# Altium footprint library MODULE.PCBLIB: 102 footprints (part 4 of 7)
Each footprint in its own frame and in the unit in brackets; x right, y up, seen from the top. Pads: shape width x height; smd on the part's side, far side on the other; paste and mask are expansions set on the pad; w line width, h text height; cw(c..) or ccw(c..) is an arc to the next point about the centre after c.
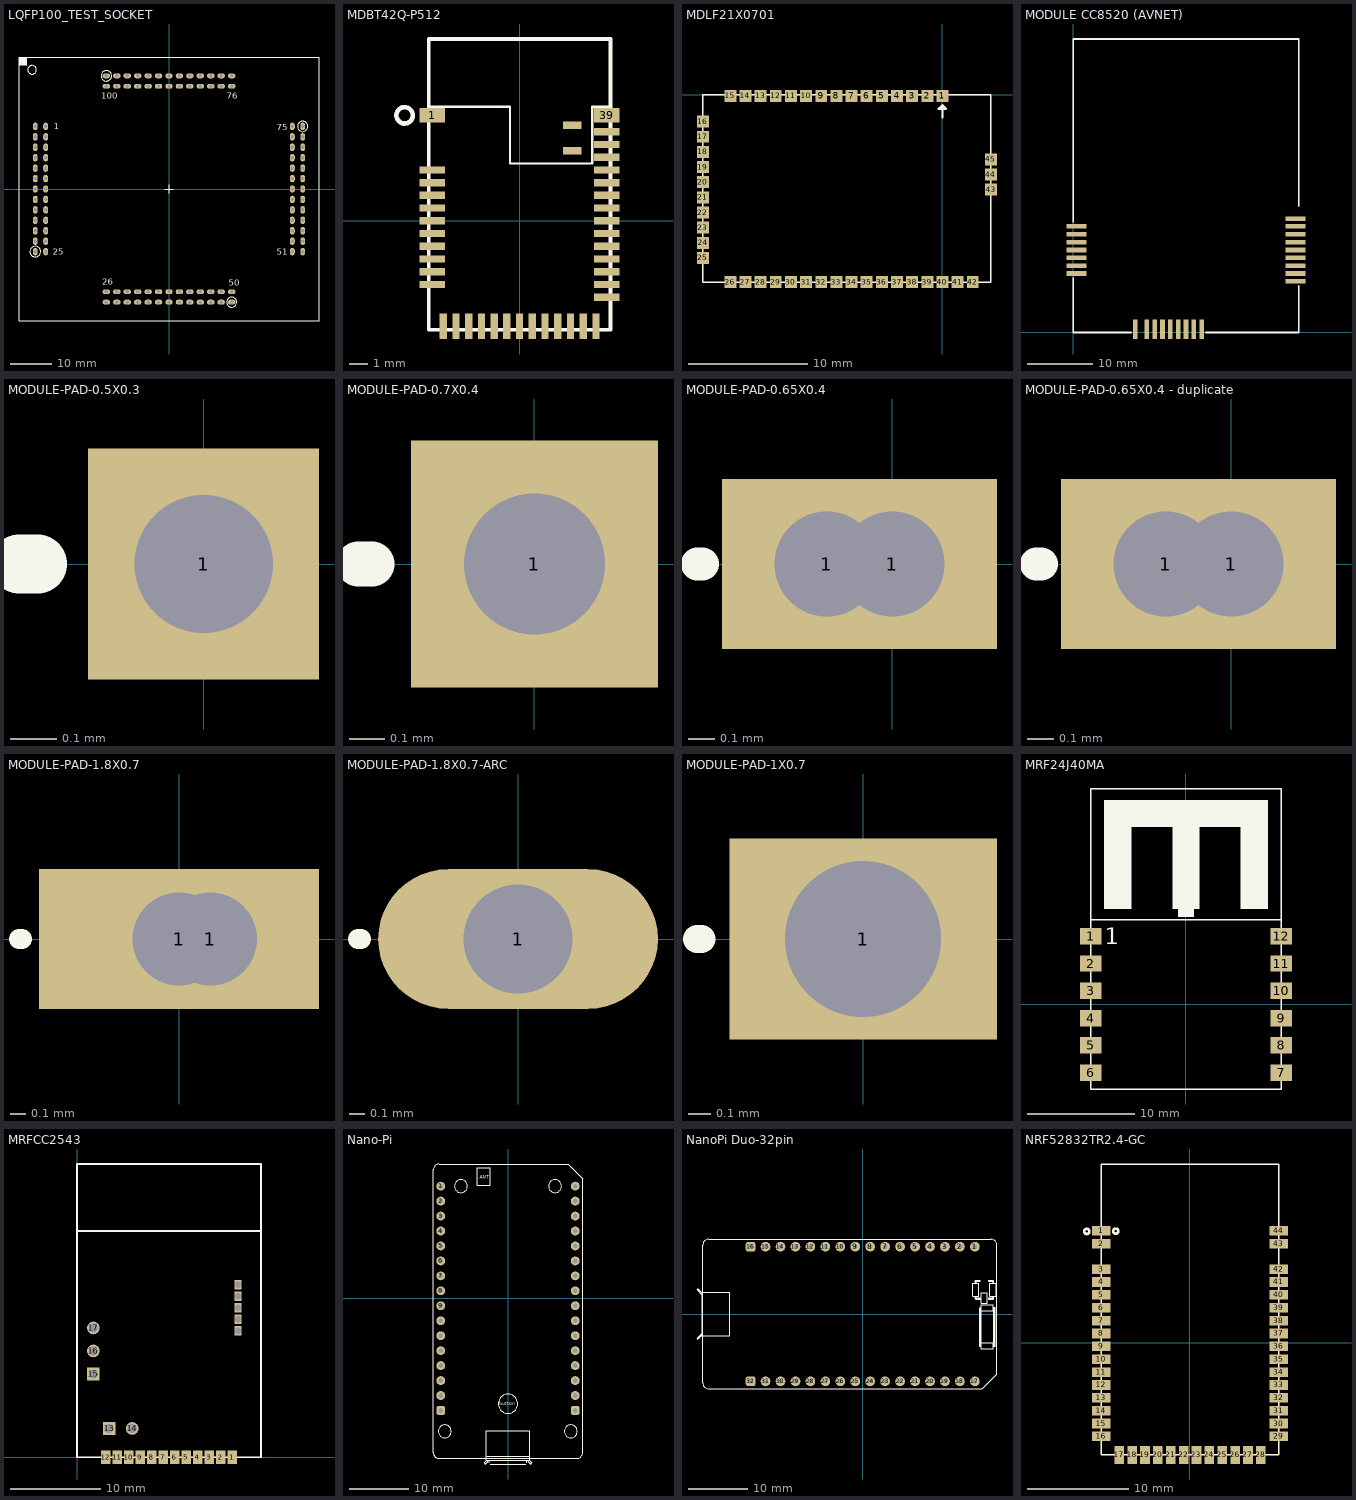
[diagram p3: the footprints below, top view; thin cyan lines are the x and y axes]

## LQFP100_TEST_SOCKET [mm]
pads (104):
  oval 1.2x1.8 hole 0.8 mask+0.102: 0(-32.541,-15.24) 0(32.541,15.24) 1(-30.001,15.24) 2(-32.541,15.24) 3(-30.001,12.7) 4(-32.541,12.7) 5(-30.001,10.16) 6(-32.541,10.16) 7(-30.001,7.62) 8(-32.541,7.62) 9(-30.001,5.08) 10(-32.541,5.08) 11(-30.001,2.54) 12(-32.541,2.54) 13(-30.001,0) 14(-32.541,0) 15(-30.001,-2.54) 16(-32.541,-2.54) 17(-30.001,-5.08) 18(-32.541,-5.08) 19(-30.001,-7.62) 20(-32.541,-7.62) 21(-30.001,-10.16) 22(-32.541,-10.16) 23(-30.001,-12.7) 24(-32.541,-12.7) 25(-30.001,-15.24) 51.(30.001,-15.24) 52(32.541,-15.24) 53(30.001,-12.7) 54(32.541,-12.7) 55(30.001,-10.16) 56(32.541,-10.16) 57(30.001,-7.62) 58(32.541,-7.62) 59(30.001,-5.08) 60(32.541,-5.08) 61(30.001,-2.54) 62(32.541,-2.54) 63(30.001,0) 64(32.541,0) 65(30.001,2.54) 66(32.541,2.54) 67(30.001,5.08) 68(32.541,5.08) 69(30.001,7.62) 70(32.541,7.62) 71(30.001,10.16) 72(32.541,10.16) 73(30.001,12.7) 74(32.541,12.7) 75(30.001,15.24)
  oval 1.8x1.2 hole 0.8 mask+0.102: 0(-15.24,27.541) 0(15.24,-27.541) 16(15.24,25.001) 26(-15.24,-25.001) 27(-15.24,-27.541) 28(-12.7,-25.001) 29(-12.7,-27.541) 30(-10.16,-25.001) 31(-10.16,-27.541) 32(-7.62,-25.001) 33(-7.62,-27.541) 34(-5.08,-25.001) 35(-5.08,-27.541) 36(-2.54,-25.001) 37(-2.54,-27.541) 38(0,-25.001) 39(0,-27.541) 40(2.54,-25.001) 41(2.54,-27.541) 42(5.08,-25.001) 43(5.08,-27.541) 44(7.62,-25.001) 45(7.62,-27.541) 46(10.16,-25.001) 47(10.16,-27.541) 48(12.7,-25.001) 49(12.7,-27.541) 50(15.24,-25.001) 77(15.24,27.541) 78(12.7,25.001) 79(12.7,27.541) 80(10.16,25.001) 81(10.16,27.541) 82(7.62,25.001) 83(7.62,27.541) 84(5.08,25.001) 85(5.08,27.541) 86(2.54,25.001) 87(2.54,27.541) 88(0,25.001) 89(0,27.541) 90(-2.54,25.001) 91(-2.54,27.541) 92(-5.08,25.001) 93(-5.08,27.541) 94(-7.62,25.001) 95(-7.62,27.541) 96(-10.16,25.001) 97(-10.16,27.541) 98(-12.7,25.001) 99(-12.7,27.541) 100(-15.24,25.001)
TopOverlay:
  circle w0.254: c15.24,-27.541 r1.21
  circle w0.254: c-32.541,-15.24 r1.294
  circle w0.254: c32.541,15.24 r1.257
  circle w0.254: c-15.24,27.541 r1.276
  circle w0.254: c-33.312,29.001 r1.061
  rectangle: -36.5,30.001 -34.501,32
  lines w0.127: -1,0 1,0 ; 0,-1 0,1
  lines w0.2: -36.5,-32 36.5,-32 36.5,32 -36.5,32 -36.5,-32
  text "1" at -28.001,14.501 h1.52
  text "25" at -28.251,-16.001 h1.52
  text "26" at -16.251,-23.251 h1.52
  text "50" at 14.501,-23.501 h1.52
  text "51" at 26.251,-16.001 h1.52
  text "75" at 26.251,14.251 h1.52
  text "76" at 14.001,22.001 h1.52
  text "100" at -16.501,22.001 h1.52

## MDBT42Q-P512 [mm] "MDBT42Q-P512"
pads (41):
  rect 1.4x0.8 smd mask+0.102: 1(-4.8,5.8) 39(4.8,5.8)
  rect 1.4x0.4 smd mask+0.102: 2(-4.8,2.8) 3(-4.8,2.1) 4(-4.8,1.4) 5(-4.8,0.7) 6(-4.8,0) 7(-4.8,-0.7) 8(-4.8,-1.4) 9(-4.8,-2.1) 10(-4.8,-2.8) 11(-4.8,-3.5) 25(4.8,-4.2) 26(4.8,-3.5) 27(4.8,-2.8) 28(4.8,-2.1) 29(4.8,-1.4) 30(4.8,-0.7) 31(4.8,0) 32(4.8,0.7) 33(4.8,1.4) 34(4.8,2.1) 35(4.8,2.8) 36(4.8,3.5) 37(4.8,4.2) 38(4.8,4.9)
  rect 0.4x1.4 smd mask+0.102: 12(-4.2,-5.8) 13(-3.5,-5.8) 14(-2.8,-5.8) 15(-2.1,-5.8) 16(-1.4,-5.8) 17(-0.7,-5.8) 18(0,-5.8) 19(0.7,-5.8) 20(1.4,-5.8) 21(2.1,-5.8) 22(2.8,-5.8) 23(3.5,-5.8) 24(4.2,-5.8)
  rect 1x0.4 smd mask+0.102: 40(2.9,5.25) 41(2.9,3.85)
TopOverlay:
  circle w0.254: c-6.325,5.8 r0.45
  lines w0.127: -5,6.275 -0.525,6.275 -0.525,3.15 4,3.15 4,6.275 4.975,6.275
  lines w0.2: -5,-6 5,-6 5,10 -5,10 -5,-6

## MDLF21X0701 [mm]
pads (45):
  rect 1x1 smd mask+0.102: 1(0,-0.1) 2(-1.27,-0.1) 3(-2.54,-0.1) 4(-3.81,-0.1) 5(-5.08,-0.1) 6(-6.35,-0.1) 7(-7.62,-0.1) 8(-8.89,-0.1) 9(-10.16,-0.1) 10(-11.43,-0.1) 11(-12.7,-0.1) 12(-13.97,-0.1) 13(-15.24,-0.1) 14(-16.51,-0.1) 15(-17.78,-0.1) 16(-20.07,-2.26) 17(-20.07,-3.53) 18(-20.07,-4.8) 19(-20.07,-6.07) 20(-20.07,-7.34) 21(-20.07,-8.61) 22(-20.07,-9.88) 23(-20.07,-11.15) 24(-20.06,-12.42) 25(-20.07,-13.69) 26(-17.78,-15.72) 27(-16.51,-15.72) 28(-15.24,-15.72) 29(-13.97,-15.72) 30(-12.7,-15.72) 31(-11.43,-15.72) 32(-10.16,-15.72) 33(-8.89,-15.72) 34(-7.62,-15.72) 35(-6.35,-15.72) 36(-5.08,-15.72) 37(-3.81,-15.72) 38(-2.54,-15.72) 39(-1.27,-15.72) 40(0,-15.72) 41(1.27,-15.72) 42(2.54,-15.72) 43(4.07,-7.97) 44(4.06,-6.7) 45(4.06,-5.43)
TopOverlay:
  lines w0.127: -20.07,-15.72 4.06,-15.72 4.06,0 -20.07,0 -20.07,-15.72
  lines w0.2: 0,-1.9 0,-0.9 ; 0,-0.9 0.3,-1.2 -0.3,-1.2 0,-0.9

## MODULE CC8520 (AVNET) [mm]
pads (25):
  rect 3x0.7 smd mask+0.102: P1(0.5,11.42) P2(0.5,12.62) P3(0.5,13.82) P4(0.5,15.02) P5(0.5,10.22) P6(0.5,9.02) P9(0.5,16.22) P17(34,7.82) P18(34,9.02) P19(34,10.22) P20(34,11.42) P21(34,12.62) P22(34,13.82) P23(34,15.02) P24(34,16.22) P26(34,17.42)
  rect 0.7x3 smd mask+0.102: P7(9.49,0.5) P8(11.25,0.5) P10(12.45,0.5) P11(13.65,0.5) P12(14.85,0.5) P13(16.05,0.5) P14(17.25,0.5) P15(18.45,0.5) P16(19.65,0.5)
TopOverlay:
  lines w0.254: 0,8.375 0,0 8.875,0 ; 0,16.875 0,44.9 34.5,44.9 ; 20.25,0 34.5,0 ; 34.5,7.125 34.5,0 ; 34.5,19.325 34.5,44.9 ; 34.5,0 34.5,0 ; 34.5,44.9 34.5,44.9

## MODULE-PAD-0.5X0.3 [mm]
pads (1):
  rect 0.5x0.5 / inner round 0 / far side round 0 hole 0.3 mask+0.102: 1(0,0)
TopOverlay:
  lines w0.127: -0.4,0 -0.36,0

## MODULE-PAD-0.7X0.4 [mm] "MODULE-PAD-0.7X0.4"
pads (1):
  rect 0.7x0.7 hole 0.4 mask+0.102: 1(0,0)
TopOverlay:
  lines w0.127: -0.5,0 -0.46,0

## MODULE-PAD-0.65X0.4 [mm]
pads (2):
  rect 0.8x0.65 hole 0.4 mask+0.102: 1(-0.25,0) 1(0,0)
TopOverlay:
  lines w0.127: -0.745,0 -0.725,0

## MODULE-PAD-0.65X0.4 - duplicate [mm]
pads (2):
  rect 0.8x0.65 hole 0.4 mask+0.102: 1(-0.25,0) 1(0,0)
TopOverlay:
  lines w0.127: -0.745,0 -0.725,0

## MODULE-PAD-1.8X0.7 [mm]
pads (2):
  rect 1.8x0.9 hole 0.6 mask+0.102: 1(0,0)
  oval 1x0.9 hole 0.6 mask+0.102: 1(0.2,0)
TopOverlay:
  lines w0.127: -1.03,0 -1.01,0

## MODULE-PAD-1.8X0.7-ARC [mm]
pads (1):
  oval 1.8x0.9 hole 0.7 mask+0.102: 1(0,0)
TopOverlay:
  lines w0.127: -1.03,0 -1.01,0

## MODULE-PAD-1X0.7 [mm]
pads (1):
  rect 1.2x0.9 hole 0.7 mask+0.102: 1(0,0)
TopOverlay:
  lines w0.127: -0.745,0 -0.725,0

## MRF24J40MA [mm]
pads (12):
  rect 2x1.524 smd mask+0.102: 1(-8.89,6.35) 2(-8.89,3.81) 3(-8.89,1.27) 4(-8.89,-1.27) 5(-8.89,-3.81) 6(-8.89,-6.35) 7(8.89,-6.35) 8(8.89,-3.81) 9(8.89,-1.27) 10(8.89,1.27) 11(8.89,3.81) 12(8.89,6.35)
TopOverlay:
  rectangle: -7.62,16.51 7.62,19.05
  rectangle: -7.62,8.89 -5.08,16.51
  rectangle: 5.08,8.89 7.62,16.51
  rectangle: -1.27,8.89 1.27,16.51
  rectangle: -0.762,8.128 0.762,8.89
  lines w0.127: -8.89,7.874 8.89,7.874 ; -8.89,-7.874 8.89,-7.874 8.89,20.066 -8.89,20.066 -8.89,-7.874
  text "1" at -7.56,5.61 h1.52

## MRFCC2543 [mm]
pads (22):
  rect 1x1.5 smd mask+0.102: 1(17.145,0) 2(15.875,0) 3(14.605,0) 4(13.335,0) 5(12.065,0) 6(10.795,0) 7(9.525,0) 8(8.255,0) 9(6.985,0) 10(5.715,0) 11(4.445,0) 12(3.175,0)
  rect 1.4x1.4 hole 1 mask+0.102: 13(3.556,3.175) 15(1.8,9.2)
  round 1.4 hole 1 mask+0.102: 14(6.096,3.175) 16(1.8,11.74) 17(1.8,14.28)
  rect 0.8x1 hole 0.7 mask+0.102: 18(17.78,19.05) 19(17.78,17.78) 20(17.78,16.51) 21(17.78,15.24) 22(17.78,13.97)
TopOverlay:
  lines w0.2: 0,25 20.32,25 ; 0,0 20.32,0 20.32,32.385 0,32.385 0,0

## Nano-Pi [mm] "Nano-Pi"
pads (32):
  round 1.5 hole 0.8 mask+0.05: 1(-11.43,19.05) 2(-11.43,16.51) 3(-11.43,13.97) 4(-11.43,11.43) 5(-11.43,8.89) 6(-11.43,6.35) 7(-11.43,3.81) 8(-11.43,1.27) 9(-11.43,-1.27) 10(-11.43,-3.81) 11(-11.43,-6.35) 12(-11.43,-8.89) 13(-11.43,-11.43) 14(-11.43,-13.97) 15(-11.43,-16.51) 18(11.43,-16.51) 19(11.43,-13.97) 20(11.43,-11.43) 21(11.43,-8.89) 22(11.43,-6.35) 23(11.43,-3.81) 24(11.43,-1.27) 25(11.43,1.27) 26(11.43,3.81) 27(11.43,6.35) 28(11.43,8.89) 29(11.43,11.43) 30(11.43,13.97) 31(11.43,16.51) 32(11.43,19.05)
  rrect50% 1.5x1.5 hole 0.8 mask+0.05: 16(-11.43,-19.05) 17(11.43,-19.05)
TopOverlay:
  circle w0.1: c8,19.05 r1.1
  circle w0.1: c10.675,-22.591 r1.1
  circle w0.1: c-8,19.05 r1.1
  circle w0.1: c-10.725,-22.591 r1.1
  lines w0.1: -3.7,-27.511 -3.7,-22.511 3.7,-22.511 3.7,-27.511 ; -3.7,-26.841 3.7,-26.841 ; -3.45,-27.541 -3.45,-27.766 -3.825,-28.141 -4,-27.966 -4,-27.916 -3.7,-27.616 -3.7,-27.541 3.7,-27.541 3.7,-27.616 4,-27.916 4,-27.966 3.825,-28.141 3.45,-27.766 3.45,-27.541 ; -3.2,-27.966 -3.2,-27.541 ; -3.025,-28.141 3.025,-28.141 ; 3.2,-27.966 3.2,-27.541 ; -12.7,-26.191 ccw(c-11.7,-26.191) -11.7,-27.191 ; -12.7,-26.191 ccw(c-11.7,-26.191) -11.7,-27.191 ; -12.7,-26.191 -12.7,21.809 cw(c-11.7,21.809) -11.7,22.809 10.2,22.809 12.7,20.309 12.7,-26.191 cw(c11.7,-26.191) 11.7,-27.191 -11.7,-27.191 ; 0,-19.56 cw(c0,-17.92) 0,-16.28 cw(c0,-17.92) 0,-19.56
  lines w0.127: -5.225,19.159 -5.225,22.159 -3.025,22.159 -3.025,19.159 -5.225,19.159
  text "button" at -1.45,-18.2 h0.55
  text "ANT" at -4.825,20.325 h0.55

## NanoPi Duo-32pin [mm] "NanoPi Duo-32pin"
pads (32):
  round 1.65 hole 0.8 mask+0.05: 1(19.05,11.43) 2(16.51,11.43) 3(13.97,11.43) 4(11.43,11.43) 5(8.89,11.43) 6(6.35,11.43) 7(3.81,11.43) 8(1.27,11.43) 9(-1.27,11.43) 10(-3.81,11.43) 11(-6.35,11.43) 12(-8.89,11.43) 13(-11.43,11.43) 14(-13.97,11.43) 15(-16.51,11.43) 17(19.05,-11.43) 18(16.51,-11.43) 19(13.97,-11.43) 20(11.43,-11.43) 21(8.89,-11.43) 22(6.35,-11.43) 23(3.81,-11.43) 24(1.27,-11.43) 25(-1.27,-11.43) 26(-3.81,-11.43) 27(-6.35,-11.43) 28(-8.89,-11.43) 29(-11.43,-11.43) 30(-13.97,-11.43) 31(-16.51,-11.43)
  rrect50% 1.65x1.65 hole 0.8 mask+0.05: 16(-19.05,11.43) 32(-19.05,-11.43)
TopOverlay:
  lines w0.127: -27.441,3.71 -23.991,3.71 ; -27.434,-3.685 -22.619,-3.685 -22.619,3.71 -24.016,3.71 ; -27.248,-3.5 -28.01,-4.262 -28.152,-4.12 -27.2,-3.169 ; -27.248,3.5 -28.01,4.262 -28.152,4.12 -27.225,3.194 ; -27.219,-3.429 -27.219,3.429 ; 19.08,2.751 19.28,2.751 ; 19.08,5.501 19.28,5.501 ; 19.18,2.876 19.18,2.626 19.93,2.626 ; 19.18,5.376 19.18,5.626 19.93,5.626 ; 19.555,2.526 19.555,2.726 ; 19.555,5.526 19.555,5.726 ; 19.906,-2.2 20.106,-2.2 ; 19.906,1.085 19.906,-5.485 20.106,-5.485 20.106,1.085 ; 20.006,-5.485 20.006,1.085 ; 21.43,2.626 22.18,2.626 22.18,2.876 ; 21.43,5.626 22.18,5.626 22.18,5.376 ; 21.805,2.526 21.805,2.726 ; 21.805,5.526 21.805,5.726 ; 22.08,2.751 22.28,2.751 ; 22.08,5.501 22.28,5.501 ; 22.276,-2.19 22.476,-2.19 ; 22.376,-5.485 22.376,1.105 ; -27.191,-11.7 ccw(c-26.191,-11.7) -26.191,-12.7 20.309,-12.7 22.809,-10.2 22.809,11.7 ccw(c21.809,11.7) 21.809,12.7 -26.191,12.7 ccw(c-26.191,11.7) -27.191,11.7 -27.191,-11.7 ; 18.655,3.026 19.705,3.026 19.705,5.226 18.655,5.226 18.655,3.026 ; 19.08,2.626 19.28,2.626 19.28,2.876 19.08,2.876 19.08,2.626 ; 19.08,5.376 19.08,5.626 19.28,5.626 19.28,5.376 19.08,5.376 ; 19.18,2.526 19.18,2.726 19.93,2.726 19.93,2.526 19.18,2.526 ; 19.18,5.526 19.18,5.726 19.93,5.726 19.93,5.526 19.18,5.526 ; 20.16,-5.913 22.192,-5.913 22.192,-4.897 20.16,-4.897 20.16,-5.913 ; 20.16,0.587 22.192,0.587 22.192,1.603 20.16,1.603 20.16,0.587 ; 20.16,1.812 20.16,3.59 21.15,3.59 21.15,1.812 20.16,1.812 ; 21.43,2.526 21.43,2.726 22.18,2.726 22.18,2.526 21.43,2.526 ; 21.43,5.526 21.43,5.726 22.18,5.726 22.18,5.526 21.43,5.526 ; 21.605,3.026 22.655,3.026 22.655,5.226 21.605,5.226 21.605,3.026 ; 22.08,2.626 22.28,2.626 22.28,2.876 22.08,2.876 22.08,2.626 ; 22.08,5.376 22.08,5.626 22.28,5.626 22.28,5.376 22.08,5.376 ; 22.276,-5.485 22.476,-5.485 22.476,1.105 22.276,1.105 22.276,-5.485

## NRF52832TR2.4-GC [mm] "NRF52832TR2.4-GC"
pads (44):
  rect 1.8x0.95 smd mask+0.102: 1(-8.75,11.05) 2(-8.75,9.78) 3(-8.75,7.28) 4(-8.75,6.01) 5(-8.75,4.74) 6(-8.75,3.47) 7(-8.75,2.2) 8(-8.75,0.93) 9(-8.75,-0.34) 10(-8.75,-1.61) 11(-8.75,-2.88) 12(-8.75,-4.15) 13(-8.75,-5.42) 14(-8.75,-6.69) 15(-8.75,-7.96) 16(-8.75,-9.23) 29(8.75,-9.23) 30(8.75,-7.96) 31(8.75,-6.69) 32(8.75,-5.42) 33(8.75,-4.15) 34(8.75,-2.88) 35(8.75,-1.61) 36(8.75,-0.34) 37(8.75,0.93) 38(8.75,2.2) 39(8.75,3.47) 40(8.75,4.74) 41(8.75,6.01) 42(8.75,7.28) 43(8.75,9.78) 44(8.75,11.05)
  rect 0.95x1.8 smd mask+0.102: 17(-6.98,-11.05) 18(-5.71,-11.05) 19(-4.44,-11.05) 20(-3.17,-11.05) 21(-1.9,-11.05) 22(-0.63,-11.05) 23(0.64,-11.05) 24(1.91,-11.05) 25(3.18,-11.05) 26(4.45,-11.05) 27(5.72,-11.05) 28(6.99,-11.05)
TopOverlay:
  circle w0.254: c-10.179,11 r0.254
  circle w0.254: c-7.329,11.025 r0.254
  lines w0.127: -8.75,-11.05 -8.75,17.65 8.75,17.65 8.75,-11.05 -8.75,-11.05